# EAGLE library part 1XRJ45_MM_JACK (library con-conec)
PPT PRJ-006
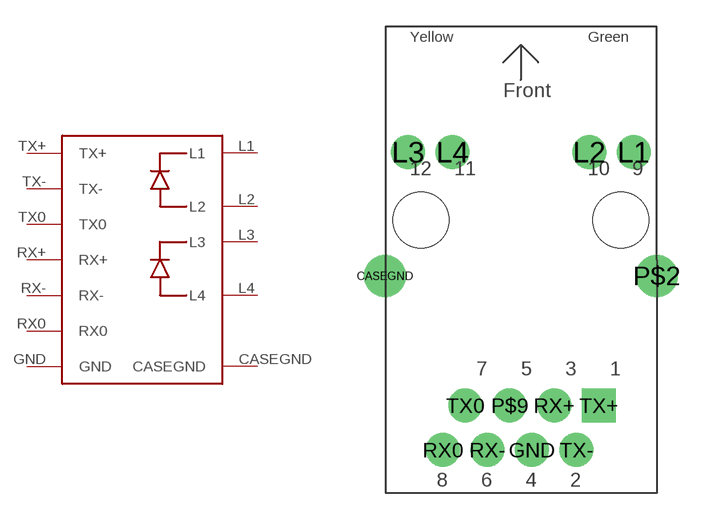
[diagram p0: symbol with the pads of 1XRJ45_MM_JACK; footprint 1XRJ45_MM_JACK]

Designator prefix -

## 1XRJ45_MM_JACK  [1XRJ45_MM_JACK]
CASEGND  CASEGND
GND  GND
L1  L1
L2  L2
L3  L3
L4  L4
RX0  RX0
RX+  RX+
RX-  RX-
TX0  TX0
TX+  TX+
TX-  TX-

## Footprint 1XRJ45_MM_JACK (pad centres in mm)
PPT PRJ-006
drill 1.6 round: CASEGND -7.75,-4.2; P$2 7.75,-4.2
drill 1 pad 1.93 round: GND 0.635,-14.13; L1 6.44,2.88; L2 3.9,2.88; L3 -6.44,2.88; L4 -3.9,2.88; P$9 -0.635,-11.59; RX0 -4.445,-14.13; RX+ 1.905,-11.59; RX- -1.905,-14.13; TX0 -3.175,-11.59; TX- 3.175,-14.13
drill 1 pad 1.93 square: TX+ 4.445,-11.59
hole 3.2 at 5.7,-1
hole 3.2 at -5.7,-1